# EAGLE library part 691311500108 (library Wuerth_Elektronik_eiCan_Terminal_Blocks_v2.0)
WR-TBL Serie 311 - 5.08 mm Close Vertical PCB Header , 8 Pins
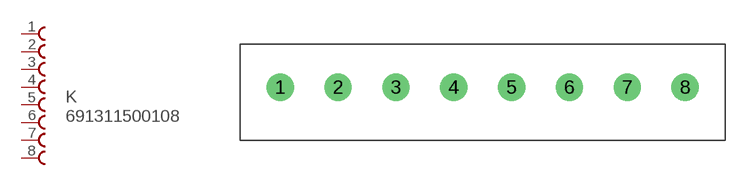
[diagram p74: symbol with the pads of 691311500108; footprint 691311500108]

Designator prefix K

## 691311500108  [691311500108]
1  1  pas
2  2  pas
3  3  pas
4  4  pas
5  5  pas
6  6  pas
7  7  pas
8  8  pas

## Footprint 691311500108 (pad centres in mm)
WR-TBL Serie 311 - 5.08 mm Close Vertical PCB Header , 8 Pins
drill 1.6 round: 1 -35.56,0; 2 -30.48,0; 3 -25.4,0; 4 -20.32,0; 5 -15.24,0; 6 -10.16,0; 7 -5.08,0; 8 0,0